# Altium footprint library mw.PcbLib: 252 footprints (part 15 of 16)
Each footprint in its own frame and in the unit in brackets; x right, y up, seen from the top. Pads: shape width x height; smd on the part's side, far side on the other; paste and mask are expansions set on the pad; w line width, h text height; cw(c..) or ccw(c..) is an arc to the next point about the centre after c.
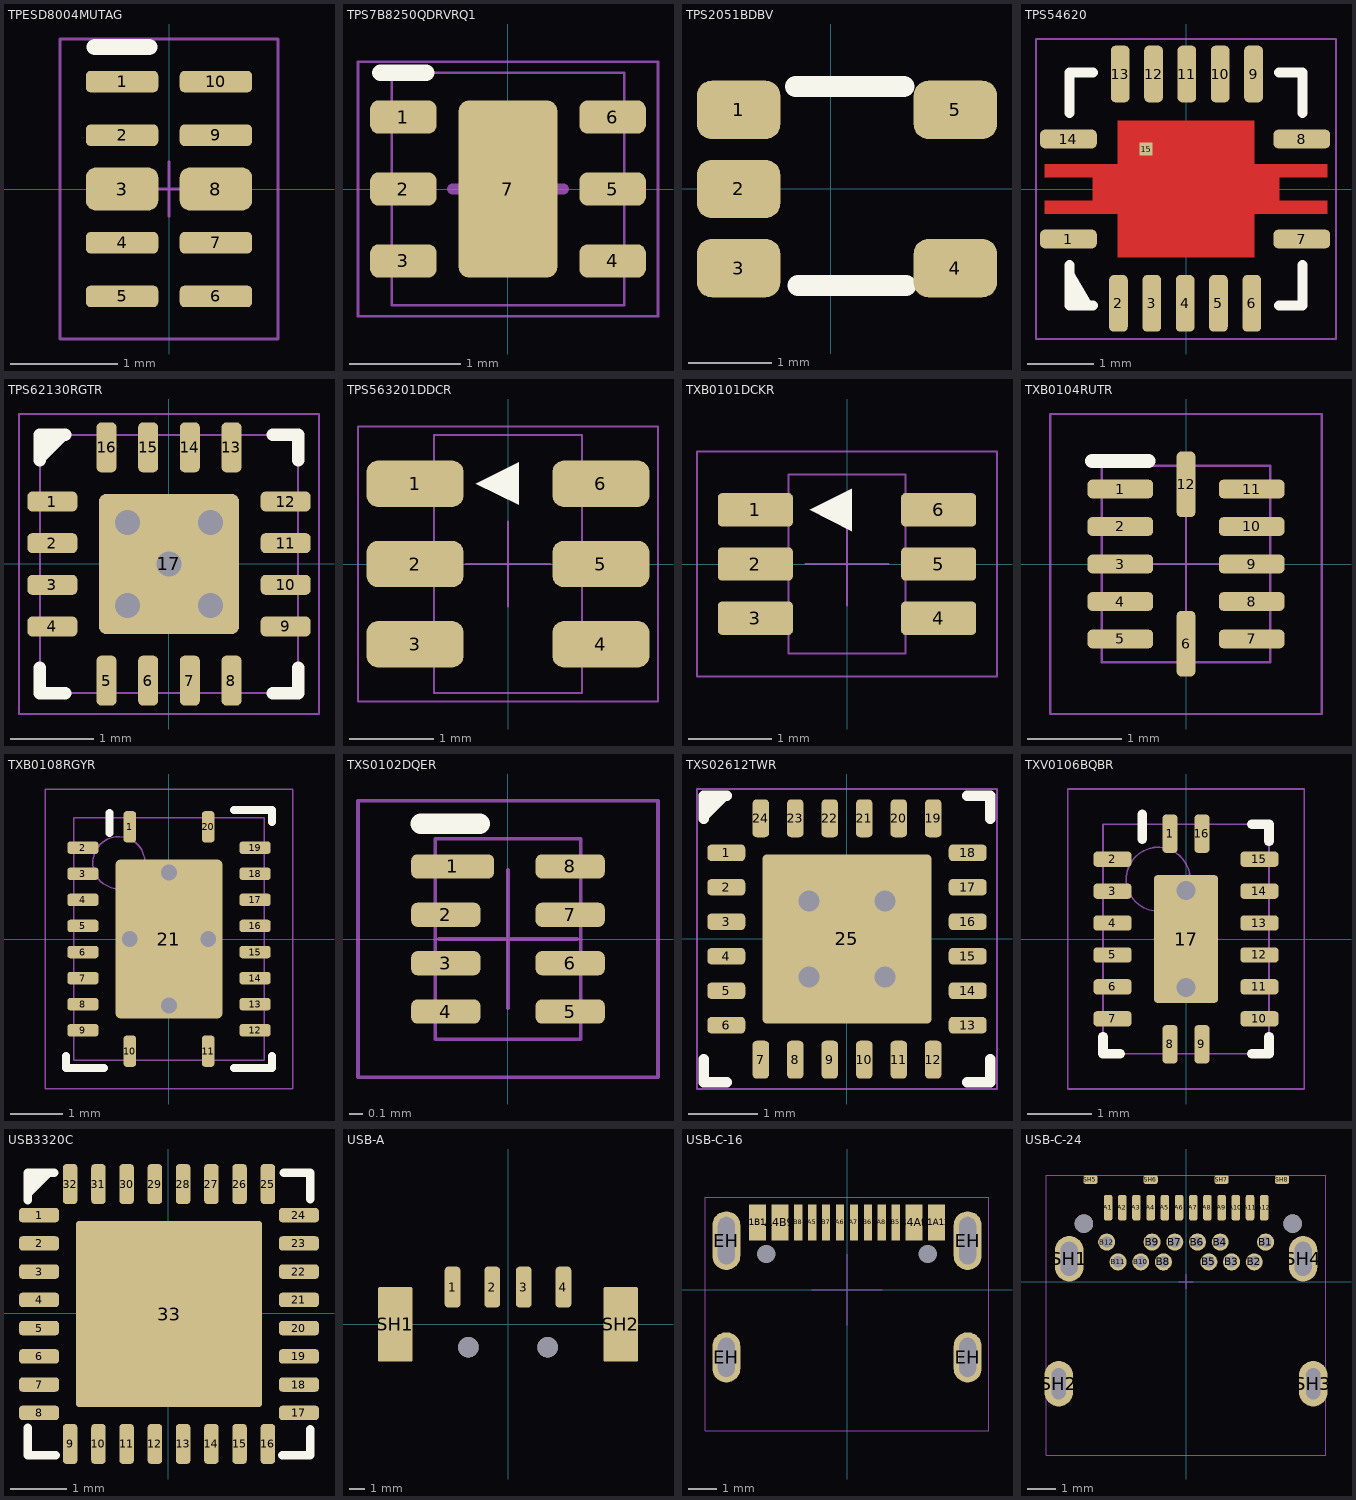
[diagram p14: the footprints below, top view; thin cyan lines are the x and y axes]

## TPESD8004MUTAG [mm]
pads (10):
  rrect45% 0.675x0.2 smd: 1(-0.437,1) 2(-0.437,0.5) 4(-0.437,-0.5) 5(-0.437,-1) 6(0.437,-1) 7(0.437,-0.5) 9(0.437,0.5) 10(0.437,1)
  rrect45% 0.675x0.4 smd paste-0.041: 3(-0.437,0) 8(0.437,0)
Top Overlay:
  lines w0.15: -0.691,1.321 -0.183,1.321
Top Courtyard:
  lines w0.025: -0.254,0 0.254,0 ; 0,-0.254 0,0.254 ; -1.016,-1.397 -1.016,1.397 1.016,1.397 1.016,-1.397 -1.016,-1.397
3D body "TPESD8004MUTAG.step": height 0.5, standoff -0.03, extent -0.5,-1.25 0.5,1.25

## TPS7B8250QDRVRQ1 [mm] "SON, 6-Leads, Body 2.00x2.00mm, Pitch 0.65mm, Thermal Pad 1.60x0.89mm, IPC High Density"
height 0.8
pads (7):
  rrect50% 0.6x0.3 smd: 1(-0.945,0.65) 2(-0.945,0) 3(-0.945,-0.65) 4(0.945,-0.65) 5(0.945,0) 6(0.945,0.65)
  rrect20% 0.89x1.6 smd: 7(0,0)
Top Overlay:
  lines w0.15: -1.152,1.049 -0.738,1.049
Top 3D Body (Mech13):
  lines w0.025: -1.05,-1.05 -1.05,1.05 1.05,1.05 1.05,-1.05 -1.05,-1.05
Top Courtyard:
  lines w0.025: -1.355,-1.15 -1.355,1.15 1.355,1.15 1.355,-1.15 -1.355,-1.15
  lines w0.1: -0.5,0 0.5,0 ; 0,-0.5 0,0.5
3D body "WSON-6.step": height 0.8, standoff 0, extent -1.1,-1.05 1.1,1.05

## TPS2051BDBV [mm] "TPS2051BDBV"
pads (5):
  rrect50% 1x0.7 smd: 1(-1.104,0.95) 2(-1.104,0) 3(-1.104,-0.95) 4(1.496,-0.95) 5(1.496,0.95)
Top Overlay:
  lines w0.254: -0.418,1.229 0.877,1.229 ; -0.393,-1.158 0.903,-1.158

## TPS54620 [mm] "VQFN_3_5"
pads (15):
  rrect50% 0.85x0.28 smd paste-0.04: 1(-1.763,-0.75) 7(1.737,-0.75) 8(1.737,0.75) 14(-1.763,0.75)
  rrect50% 0.28x0.85 smd paste-0.04: 2(-1.013,-1.716) 3(-0.513,-1.716) 4(-0.013,-1.716) 5(0.487,-1.716) 6(0.987,-1.716) 9(1.013,1.725) 10(0.513,1.725) 11(0.013,1.725) 12(-0.487,1.725) 13(-0.987,1.725)
  rect 0.2x0.2 smd paste+0: 15(-0.6,0.6)
Top Layer:
  region: -1.35,-0.175 -2.124,-0.175 -2.124,-0.375 -1.35,-0.375
  region: -1.35,0.375 -2.124,0.375 -2.124,0.175 -1.35,0.175
  region: -1.013,0.375 -1.4,0.375 -1.4,-0.375 -1.013,-0.375
  rectangle: 1.35,0.175 2.125,0.375
  rectangle: 1.35,-0.375 2.125,-0.175
  rectangle: 1.013,-0.375 1.4,0.375
  rectangle: -1.025,-1.025 1.025,1.025
Top Overlay:
  region: -1.753,-1.139 -1.394,-1.75 -1.75,-1.75
  lines w0.152: -1.75,-1.143 -1.75,-1.75 -1.397,-1.75 ; -1.75,1.143 -1.75,1.75 -1.397,1.75 ; 1.397,-1.75 1.75,-1.75 1.75,-1.143 ; 1.397,1.75 1.75,1.75 1.75,1.143
Top Paste:
  rectangle: -1.025,0.15 -0.15,1.027
  region: 0.15,1.025 0.15,0.15 1.027,0.15 1.027,1.025
  region: 1.025,-0.15 0.15,-0.15 0.15,-1.027 1.025,-1.027
  region: -0.15,-1.025 -0.15,-0.15 -1.027,-0.15 -1.027,-1.025
Top Courtyard:
  lines w0.025: -0.254,0 0.254,0 ; 0,-0.254 0,0.254 ; -2.25,-2.25 2.25,-2.25 2.25,2.25 -2.25,2.25 -2.25,-2.25
3D body "tps54620.STEP": height 0.82, standoff 0, extent -1.77,-1.77 1.77,1.77

## TPS62130RGTR [mm] "PQFN, 16-Leads, Body 3.00x3.00mm, Pitch 0.50mm, Thermal Pad 1.68x1.68mm, IPC Medium Density"
height 1
pads (17):
  rrect50% 0.6x0.24 smd: 1(-1.4,0.75) 2(-1.4,0.25) 3(-1.4,-0.25) 4(-1.4,-0.75) 9(1.4,-0.75) 10(1.4,-0.25) 11(1.4,0.25) 12(1.4,0.75)
  rrect50% 0.24x0.6 smd: 5(-0.75,-1.4) 6(-0.25,-1.4) 7(0.25,-1.4) 8(0.75,-1.4) 13(0.75,1.4) 14(0.25,1.4) 15(-0.25,1.4) 16(-0.75,1.4)
  rrect10% 1.68x1.68 smd paste-2539.97: 17(0,0)
via -0.5,0.5 diameter 0.45 hole 0.3
via 0,0 diameter 0.45 hole 0.3
via 0.5,-0.5 diameter 0.45 hole 0.3
via 0.5,0.5 diameter 0.45 hole 0.3
via -0.5,-0.5 diameter 0.45 hole 0.3
Top Overlay:
  region: -1.55,1.173 -1.173,1.55 -1.55,1.55
  lines w0.15: -1.55,-1.245 -1.55,-1.55 -1.245,-1.55 ; -1.55,1.245 -1.55,1.55 -1.245,1.55 ; 1.245,-1.55 1.55,-1.55 1.55,-1.245 ; 1.245,1.55 1.55,1.55 1.55,1.245
Top Paste:
  region: -0.775,-0.775 -0.775,0.775 0.775,0.775 0.775,-0.775
Top 3D Body (Mech13):
  lines w0.025: -1.55,-1.55 -1.55,1.55 1.55,1.55 1.55,-1.55 -1.55,-1.55
Top Courtyard:
  lines w0.025: -0.5,0 0.5,0 ; 0,-0.5 0,0.5 ; -1.8,-1.8 -1.8,1.8 1.8,1.8 1.8,-1.8 -1.8,-1.8
3D body "TPS62130RGTR.step": height 1, standoff 0, extent -1.55,-1.55 1.55,1.55

## TPS563201DDCR [mm] "SOT23, 6-Leads, Body 2.90x2.80mm, Pitch 0.95mm, IPC High Density"
height 1.1
pads (6):
  rrect50% 1.15x0.55 smd: 1(-1.1,0.95) 2(-1.1,0) 3(-1.1,-0.95) 4(1.1,-0.95) 5(1.1,0) 6(1.1,0.95)
Top Overlay:
  region: 0.129,0.699 0.129,1.207 -0.379,0.953
Top 3D Body (Mech13):
  lines w0.025: -0.875,-1.525 0.875,-1.525 0.875,1.525 -0.875,1.525 -0.875,-1.525
Top Courtyard:
  lines w0.025: -0.5,0 0.5,0 ; 0,-0.5 0,0.5 ; -1.775,-1.625 -1.775,1.625 1.775,1.625 1.775,-1.625 -1.775,-1.625
3D body "TPS563201DDCR.step": height 1.1, standoff 0, extent -1.525,-1.45 1.525,1.45

## TXB0101DCKR [mm] "SOT23, 6-Leads, Body 2.00x2.10mm, Pitch 0.65mm, IPC Medium Density"
height 1.1
pads (6):
  rrect25% 0.9x0.4 smd: 1(-1.1,0.65) 2(-1.1,0) 3(-1.1,-0.65) 4(1.1,-0.65) 5(1.1,0) 6(1.1,0.65)
Top Overlay:
  region: 0.058,0.396 0.058,0.904 -0.45,0.65
Top 3D Body (Mech13):
  lines w0.025: -0.7,-1.075 -0.7,1.075 0.7,1.075 0.7,-1.075 -0.7,-1.075
Top Courtyard:
  lines w0.025: -0.5,0 0.5,0 ; 0,-0.5 0,0.5 ; -1.8,-1.35 -1.8,1.35 1.8,1.35 1.8,-1.35 -1.8,-1.35
3D body "TXB0101DCKR.step": height 1.1, standoff 0, extent -1.2,-1.075 1.2,1.075

## TXB0104RUTR [mm] "QFN, 12-Leads, Body 1.70x2.00mm, Pitch 0.40mm, IPC Medium Density"
height 0.55
pads (12):
  rrect50% 0.7x0.2 smd: 1(-0.7,0.8) 2(-0.7,0.4) 3(-0.7,0) 4(-0.7,-0.4) 5(-0.7,-0.8) 7(0.7,-0.8) 8(0.7,-0.4) 9(0.7,0) 10(0.7,0.4) 11(0.7,0.8)
  rrect50% 0.2x0.7 smd: 6(0,-0.85) 12(0,0.85)
Top Overlay:
  lines w0.15: -1,1.101 -0.4,1.101
Top 3D Body (Mech13):
  lines w0.025: -0.9,-1.05 0.9,-1.05 0.9,1.05 -0.9,1.05 -0.9,-1.05
Top Courtyard:
  lines w0.025: -0.5,0 0.5,0 ; 0,-0.5 0,0.5 ; -1.45,-1.6 1.45,-1.6 1.45,1.6 -1.45,1.6 -1.45,-1.6
3D body "TXB0104RUTR.step": height 0.55, standoff 0, extent -0.95,-1.1 0.95,1.1

## TXB0108RGYR [mm] "QFN, 20-Leads, Body 3.50x4.50mm, Pitch 1.50mm/0.50mm, Thermal Pad 2.05x3.05mm, IPC Medium Density"
height 1
pads (21):
  rrect50% 0.24x0.6 smd: 1(-0.75,2.15) 10(-0.75,-2.15) 11(0.75,-2.15) 20(0.75,2.15)
  rrect50% 0.6x0.24 smd: 2(-1.65,1.75) 3(-1.65,1.25) 4(-1.65,0.75) 5(-1.65,0.25) 6(-1.65,-0.25) 7(-1.65,-0.75) 8(-1.65,-1.25) 9(-1.65,-1.75) 12(1.65,-1.75) 13(1.65,-1.25) 14(1.65,-0.75) 15(1.65,-0.25) 16(1.65,0.25) 17(1.65,0.75) 18(1.65,1.25) 19(1.65,1.75)
  rrect10% 2.05x3.05 smd: 21(0,0)
via -0.75,0 diameter 0.45 hole 0.3
via 0.75,0 diameter 0.45 hole 0.3
via 0,1.275 diameter 0.45 hole 0.3
via 0,-1.275 diameter 0.45 hole 0.3
Top Overlay:
  lines w0.15: -1.975,-2.245 -1.975,-2.475 -1.245,-2.475 ; -1.143,2.032 -1.143,2.413 ; 1.245,-2.475 1.975,-2.475 1.975,-2.245 ; 1.245,2.475 1.975,2.475 1.975,2.245
Top 3D Body (Mech13):
  circle w0.025: c-0.962,1.462 r0.5
  lines w0.025: -1.825,-2.325 1.825,-2.325 1.825,2.325 -1.825,2.325 -1.825,-2.325
Top Courtyard:
  lines w0.025: -0.5,0 0.5,0 ; 0,-0.5 0,0.5 ; -2.375,-2.875 2.375,-2.875 2.375,2.875 -2.375,2.875 -2.375,-2.875
3D body "TXB0108RGYR.step": height 1, standoff 0, extent -1.875,-2.375 1.875,2.375

## TXS0102DQER [mm] "SON, 8-Leads, Body 1.40x1.00mm, Pitch 0.35mm, IPC Medium Density"
height 0.4
pads (8):
  rrect50% 0.6x0.175 smd: 1(-0.4,0.525)
  rrect50% 0.5x0.175 smd: 2(-0.45,0.175) 3(-0.45,-0.175) 4(-0.45,-0.525) 5(0.45,-0.525) 6(0.45,-0.175) 7(0.45,0.175) 8(0.45,0.525)
Top Overlay:
  lines w0.15: -0.631,0.835 -0.206,0.835
Top 3D Body (Mech13):
  lines w0.025: -0.525,-0.725 0.525,-0.725 0.525,0.725 -0.525,0.725 -0.525,-0.725
Top Courtyard:
  lines w0.025: -0.5,0 0.5,0 ; 0,-0.5 0,0.5 ; -1.085,-1 1.085,-1 1.085,1 -1.085,1 -1.085,-1
3D body "TXS0102DQER.step": height 0.4, standoff 0, extent -0.575,-0.725 0.575,0.725

## TXS02612TWR [mm] "PQFN, 24-Leads, Body 4.00x4.00mm, Pitch 0.50mm, Thermal Pad 2.45x2.45mm, IPC High Density"
height 0.8
pads (25):
  rrect50% 0.55x0.24 smd: 1(-1.75,1.25) 2(-1.75,0.75) 3(-1.75,0.25) 4(-1.75,-0.25) 5(-1.75,-0.75) 6(-1.75,-1.25) 13(1.75,-1.25) 14(1.75,-0.75) 15(1.75,-0.25) 16(1.75,0.25) 17(1.75,0.75) 18(1.75,1.25)
  rrect50% 0.24x0.55 smd: 7(-1.25,-1.75) 8(-0.75,-1.75) 9(-0.25,-1.75) 10(0.25,-1.75) 11(0.75,-1.75) 12(1.25,-1.75) 19(1.25,1.75) 20(0.75,1.75) 21(0.25,1.75) 22(-0.25,1.75) 23(-0.75,1.75) 24(-1.25,1.75)
  rrect5% 2.45x2.45 smd: 25(0,0)
via 0.55,-0.55 diameter 0.45 hole 0.3
via -0.55,-0.55 diameter 0.45 hole 0.3
via 0.55,0.55 diameter 0.45 hole 0.3
via -0.55,0.55 diameter 0.45 hole 0.3
Top Overlay:
  region: -1.679,2.075 -2.075,2.075 -2.075,1.679
  lines w0.152: -2.075,-1.746 -2.075,-2.075 -1.746,-2.075 ; -2.075,1.746 -2.075,2.075 -1.746,2.075 ; 1.746,-2.075 2.075,-2.075 2.075,-1.746 ; 1.746,2.075 2.075,2.075 2.075,1.746
Top Courtyard:
  lines w0.025: -0.5,0 0.5,0 ; 0,-0.5 0,0.5 ; -2.175,-2.175 2.175,-2.175 2.175,2.175 -2.175,2.175 -2.175,-2.175
3D body "txs02612rtw.STEP": height 0.81, standoff 0, extent -2.01,-2.007 2.01,2.013

## TXV0106BQBR [mm] "QFN, 16-Leads, Body 2.50x3.50mm, Pitch 0.50mm, Thermal Pad 1.00x2.00mm, IPC Medium Density"
height 0.8
pads (17):
  rrect50% 0.24x0.6 smd: 1(-0.25,1.65) 8(-0.25,-1.65) 9(0.25,-1.65) 16(0.25,1.65)
  rrect50% 0.6x0.24 smd: 2(-1.15,1.25) 3(-1.15,0.75) 4(-1.15,0.25) 5(-1.15,-0.25) 6(-1.15,-0.75) 7(-1.15,-1.25) 10(1.15,-1.25) 11(1.15,-0.75) 12(1.15,-0.25) 13(1.15,0.25) 14(1.15,0.75) 15(1.15,1.25)
  rrect10% 1x2 smd: 17(0,0)
via 0,0.762 diameter 0.45 hole 0.3
via 0,-0.762 diameter 0.45 hole 0.3
Top Overlay:
  lines w0.15: -1.3,-1.53 -1.3,-1.8 -1.03,-1.8 ; -0.686,1.564 -0.686,1.956 ; 1.03,-1.8 1.3,-1.8 1.3,-1.53 ; 1.03,1.8 1.3,1.8 1.3,1.53
Top 3D Body (Mech13):
  circle w0.025: c-0.437,0.937 r0.5
  lines w0.025: -1.3,-1.8 -1.3,1.8 1.3,1.8 1.3,-1.8 -1.3,-1.8
Top Courtyard:
  lines w0.025: -0.5,0 0.5,0 ; 0,-0.5 0,0.5 ; -1.85,-2.35 -1.85,2.35 1.85,2.35 1.85,-2.35 -1.85,-2.35
3D body "TXV0106BQBR.step": height 0.8, standoff 0, extent -1.35,-1.85 1.35,1.85

## USB3320C [mil] "USB3320C"
pads (33):
  rrect50% 28x10 smd: 1(-90.16,68.38) 2(-90.16,48.69) 3(-90.16,29.01) 4(-90.16,9.32) 5(-90.16,-10.36) 6(-90.16,-30.05) 7(-90.16,-49.73) 8(-90.16,-69.42) 17(90.94,-69.42) 18(90.94,-49.73) 19(90.94,-30.05) 20(90.94,-10.36) 21(90.94,9.32) 22(90.94,29.01) 23(90.94,48.69) 24(90.94,68.38)
  rrect50% 10x28 smd: 9(-68.51,-91.07) 10(-48.82,-91.07) 11(-29.14,-91.07) 12(-9.45,-91.07) 13(10.23,-91.07) 14(29.92,-91.07) 15(49.6,-91.07) 16(69.29,-91.07) 25(69.29,90.03) 26(49.6,90.03) 27(29.92,90.03) 28(10.23,90.03) 29(-9.45,90.03) 30(-29.14,90.03) 31(-48.82,90.03) 32(-68.51,90.03)
  rrect4% 129.93x129.93 smd: 33(0.39,-0.52)
Top Overlay:
  region: -79.64,97.91 -98.04,79.51 -98.04,97.91
  lines w6: -98.04,-79.81 -98.04,-98.95 -78.54,-98.95 ; -98.04,78.68 -98.04,97.91 -79.64,97.91 ; 79.22,-98.95 98.82,-98.95 98.82,-80.91 ; 80.32,97.91 98.82,97.91 98.82,79.42

## USB-A [mm]
pads (8):
  rrect50% 1x2.6 smd: 1(-3.5,2.35) 2(-1,2.35) 3(1,2.35) 4(3.5,2.35)
  rrect10% 2.2x4.7 smd: SH1(-7.125,0) SH2(7.125,0)
  round 1.3 hole 1.3 unplated: ""(-2.5,-1.45) ""(2.5,-1.45)

## USB-C-16 [mm]
pads (18):
  rect 0.6x1.3 smd: A1B12(-3.2,2.415) A4B9(-2.4,2.415) B1A12(3.2,2.415) B4A9(2.4,2.415)
  rect 0.3x1.3 smd: A5(-1.25,2.415) A6(-0.25,2.415) A7(0.25,2.415) A8(1.25,2.415) B5(1.75,2.415) B6(0.75,2.415) B7(-0.75,2.415) B8(-1.75,2.415)
  oval 1x1.8 hole 0.6 slot 1.4 at 90 deg: EH(-4.32,-2.415) EH(4.32,-2.415)
  oval 1x2.1 hole 0.6 slot 1.7 at 90 deg: EH(-4.32,1.765) EH(4.32,1.765)
  round 0.6 hole 0.65 unplated: ""(-2.89,1.285) ""(2.89,1.285)
Top Courtyard:
  lines w0.025: -1.27,0.01 1.27,0.01 ; 0,-1.26 0,1.28 ; -5.08,-5.035 5.08,-5.035 5.08,3.312 -5.08,3.312 -5.08,-5.035
3D body "USBC-16.step": height 3.25, standoff -0.81, extent -4.47,-4.508 4.47,2.242

## USB-C-24 [mm]
pads (50):
  rrect50% 0.3x0.9 smd: A1(-2.745,2.605) A2(-2.245,2.605) A3(-1.745,2.605) A4(-1.245,2.605) A5(-0.745,2.605) A6(-0.245,2.605) A7(0.255,2.605) A8(0.755,2.605) A9(1.255,2.605) A10(1.755,2.605) A11(2.255,2.605) A12(2.755,2.605)
  round 0.6 hole 0.4: B1(2.805,1.395) B2(2.405,0.695) B3(1.605,0.695) B4(1.205,1.395) B5(0.805,0.695) B6(0.405,1.395) B7(-0.395,1.395) B8(-0.795,0.695) B9(-1.195,1.395) B10(-1.595,0.695) B11(-2.395,0.695) B12(-2.795,1.395)
  oval 1x1.6 hole 0.6 slot 1.2 at 90 deg: SH1(-4.115,0.805)
  oval 1x1.6 hole 0.5 slot 1.1 at 90 deg: SH2(-4.485,-3.595) SH3(4.485,-3.595)
  oval 1x1.6 hole 0.6 slot 1.199 at 90 deg: SH4(4.125,0.805)
  rrect50% 0.5x0.3 smd: SH5(-3.365,3.595) SH6(-1.245,3.595) SH7(1.255,3.595) SH8(3.385,3.595)
  oval 1x1.6 on Top Paste: ""(-4.485,-3.595) ""(-4.115,0.805) ""(4.125,0.805) ""(4.485,-3.595)
  round 0.65 hole 0.65 unplated: ""(-3.595,2.045) ""(3.755,2.045)
  round 0.6 on Top Paste: ""(-2.795,1.395) ""(-2.395,0.695) ""(-1.595,0.695) ""(-1.195,1.395) ""(-0.795,0.695) ""(-0.395,1.395) ""(0.405,1.395) ""(0.805,0.695) ""(1.205,1.395) ""(1.605,0.695) ""(2.405,0.695) ""(2.805,1.395)
Top Courtyard:
  lines w0.025: -0.254,0 0.254,0 ; 0,-0.254 0,0.254 ; -4.925,-6.125 4.925,-6.125 4.925,3.745 -4.925,3.745 -4.925,-6.125